# EAGLE library part MPL115A2 (library mpl115a1-barometer)
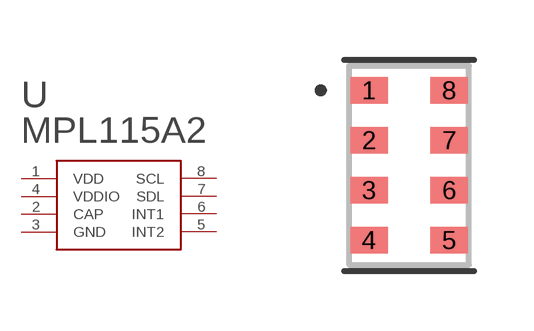
[diagram p1: symbol with the pads of LGA8-M; footprint LGA8-M]

Designator prefix -

## MPL115A2  [LGA8-M]
1  VDD
2  CAP
3  GND
4  VDDIO
5  INT2
6  INT1
7  SDL
8  SCL

## Footprint LGA8-M (pad centres in mm)
smd 0.94 x 0.66: 1 -1.003,1.875; 2 -1.003,0.625; 3 -1.003,-0.625; 4 -1.003,-1.875; 5 1.003,-1.875; 6 1.003,-0.625; 7 1.003,0.625; 8 1.003,1.875